# EAGLE library part TSW-S-07_S (library con-samtec-tsw)
HEADER
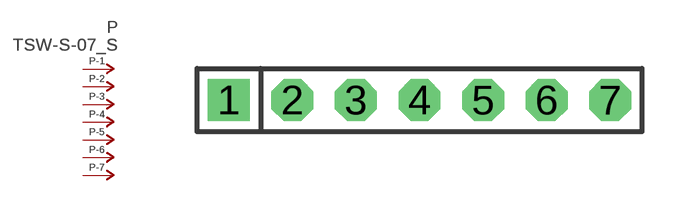
[diagram p46: symbol with the pads of TSW-S-07; footprint TSW-S-07]

Designator prefix P; gates -1=P-NV -2=P-N -3=P-N -4=P-N -5=P-N -6=P-N -7=P-N

## TSW-S-07_S  [TSW-S-07]
1  -1:P  pas
2  -2:P  pas
3  -3:P  pas
4  -4:P  pas
5  -5:P  pas
6  -6:P  pas
7  -7:P  pas

## Footprint TSW-S-07 (pad centres in mm)
HEADER
drill 0.914 pad 1.676 square: 1 -7.62,0
drill 0.914 pad 1.676 octagon: 2 -5.08,0; 3 -2.54,0; 4 0,0; 5 2.54,0; 6 5.08,0; 7 7.62,0